# Altium integrated library Header_4.IntLib: 1 symbol
Pins are listed as number, name and electrical type; pins without a type are passive.

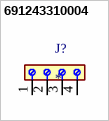
[diagram p0: symbol 691243310004]

## 691243310004
designator J?
4 Position Wire to Board Terminal Block Horizontal with Board 0.150 (3.81mm) Through Hole; MF: WÃ¼rth Elektronik; MP: 691243310004; SnapEDA_Link: https://www.snapeda.com/parts/691243310004/W%25C3%25BCrth+Elektronik+Midcom/view-part/?ref=snap; Package: None; Value: *; Check_prices: https://www.snapeda.com/parts/691243310004/W%25C3%25BCrth+Elektronik+Midcom/view-part/?ref=eda
footprint 691243310004
pins: 1, 2, 3, 4